# Altium footprint library SQMW56R8J.PcbLib: 1 footprints
Each footprint in its own frame and in the unit in brackets; x right, y up, seen from the top. Pads: shape width x height; smd on the part's side, far side on the other; paste and mask are expansions set on the pad; w line width, h text height; cw(c..) or ccw(c..) is an arc to the next point about the centre after c.
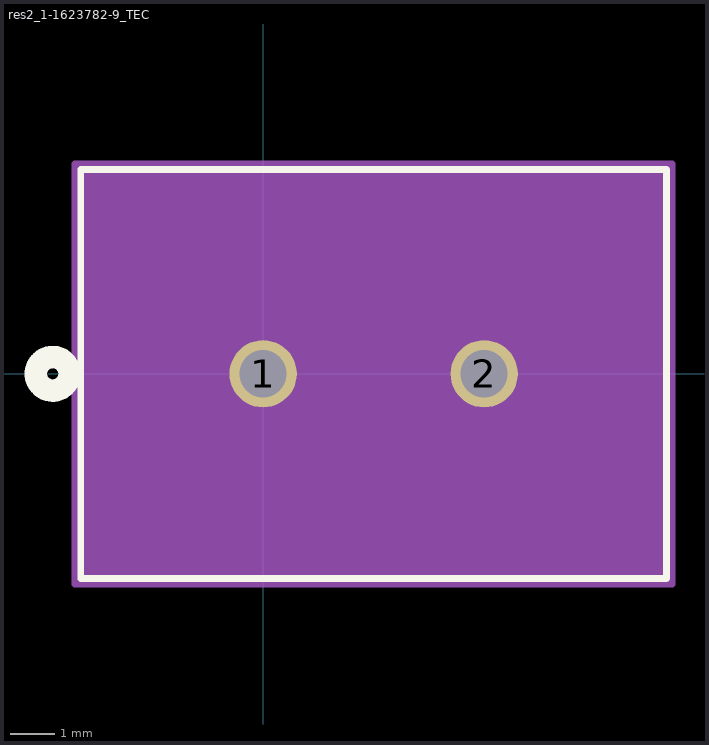
[diagram p0: the footprint, top view; thin cyan lines are the x and y axes]

## res2_1-1623782-9_TEC [mil]
pads (2):
  round 60 / inner round 60 / far side round 62 hole 42 paste-31 mask+0: 1(0,0) 2(196.85,0)
Top Overlay:
  circle w20: c-187.48,0 r15
  lines w6: -162.48,-182.33 -162.48,182 359.33,182 359.33,-182.33 -162.48,-182.33
Bottom Overlay:
  circle w20: c-187.48,0 r15
Mechanical 13:
  circle w20: c0,-75 r15
  lines w1: -157.48,-177.33 -157.48,177 354.33,177 354.33,-177.33 -157.48,-177.33
Mechanical 15:
  region: 354.33,177 -157.48,177 -157.48,-177.33 354.33,-177.33
  region: 364.33,187 -167.48,187 -167.48,-187.33 364.33,-187.33
  lines w6: -167.48,-187.33 364.33,-187.33 364.33,187 -167.48,187 -167.48,-187.33
3D body "SQMW56R8J.stp": height 984.25, standoff -137.8, extent -157.48,-177.17 354.33,177.17